# Altium footprint library mylib.PcbLib: 16 footprints
Each footprint in its own frame and in the unit in brackets; x right, y up, seen from the top. Pads: shape width x height; smd on the part's side, far side on the other; paste and mask are expansions set on the pad; w line width, h text height; cw(c..) or ccw(c..) is an arc to the next point about the centre after c.
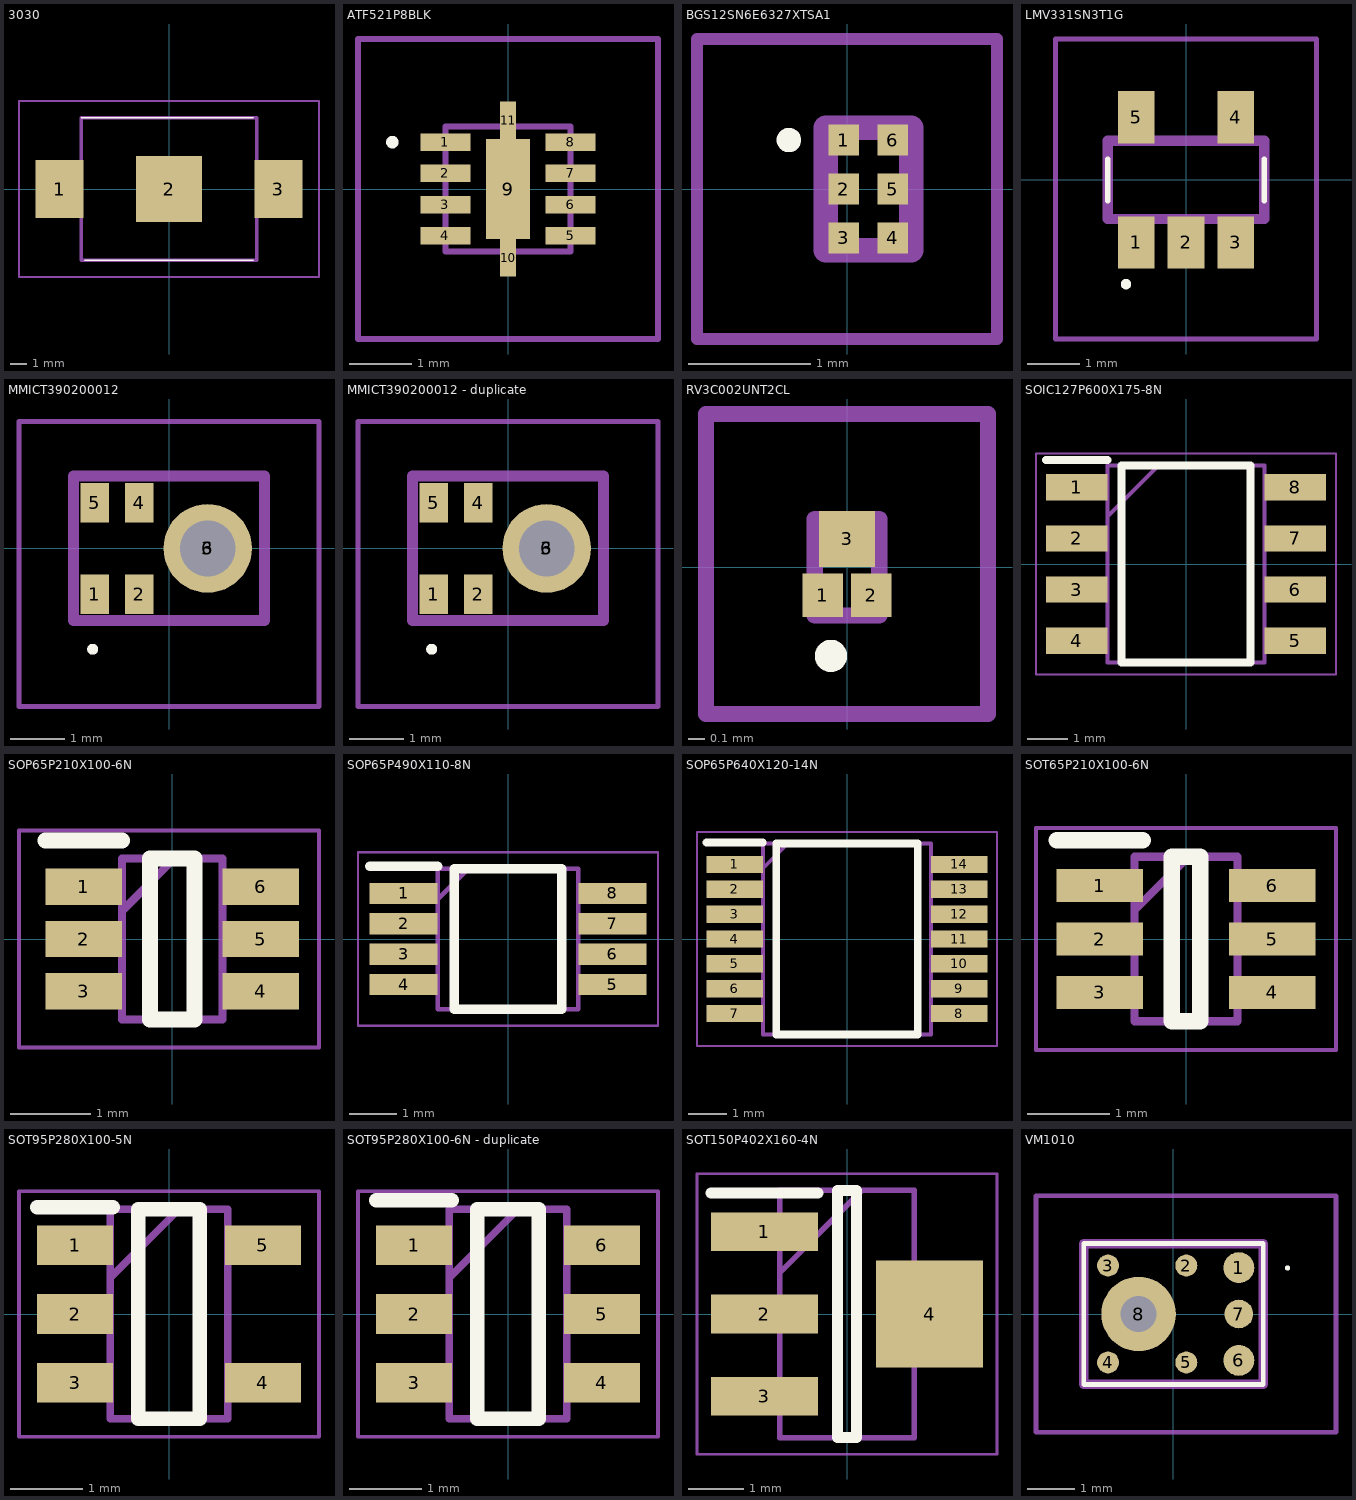
[diagram p0: the footprints below, top view; thin cyan lines are the x and y axes]

## 3030 [mm]
pads (3):
  rect 2.9x3.5 smd: 1(-6.6,0) 3(6.6,0)
  rect 3.96x3.96 smd: 2(0,0)
Top Overlay:
  lines w0.1: -5.3,4.305 5.08,4.305 ; -5.08,-4.305 5.08,-4.305
Mechanical 13:
  lines w0.2: -5.3,-4.305 -5.3,4.305 5.3,4.305 5.3,-4.305 -5.3,-4.305
Mechanical 15:
  lines w0.1: -9.05,-5.305 -9.05,5.305 9.05,5.305 9.05,-5.305 -9.05,-5.305
3D body "3030.stp": height 3.3, standoff 0, extent -7.76,-4.305 7.76,4.305

## ATF521P8BLK [mm]
pads (11):
  rect 0.8x0.28 smd: 1(-1,0.75) 2(-1,0.25) 3(-1,-0.25) 4(-1,-0.75) 5(1,-0.75) 6(1,-0.25) 7(1,0.25) 8(1,0.75)
  rect 0.7x1.6 smd: 9(0,0)
  rect 0.25x0.6 smd: 10(0,-1.1) 11(0,1.1)
Top Overlay:
  lines w0.1: -1.9,0.75 cw(c-1.85,0.75) -1.8,0.75 cw(c-1.85,0.75) -1.9,0.75
Mechanical 13:
  lines w0.1: -1,-1 1,-1 1,1 -1,1 -1,-1
Mechanical 15:
  lines w0.1: -2.4,-2.4 2.4,-2.4 2.4,2.4 -2.4,2.4 -2.4,-2.4
3D body "ATF-521P8-BLK.stp": height 0.9, standoff 0, extent -1.372,-1.375 1.372,1.375

## BGS12SN6E6327XTSA1 [mm]
pads (6):
  rect 0.25x0.25 smd: 1(-0.025,0.4) 2(-0.025,0) 3(-0.025,-0.4) 4(0.375,-0.4) 5(0.375,0) 6(0.375,0.4)
Top Overlay:
  lines w0.1: -0.525,0.4 ccw(c-0.475,0.4) -0.425,0.4 ccw(c-0.475,0.4) -0.525,0.4
Mechanical 13:
  lines w0.2: -0.175,-0.5 0.525,-0.5 0.525,0.5 -0.175,0.5 -0.175,-0.5
Mechanical 15:
  lines w0.1: -1.225,-1.225 1.225,-1.225 1.225,1.225 -1.225,1.225 -1.225,-1.225

## LMV331SN3T1G [mm]
pads (5):
  rect 0.7x1 smd: 1(-0.95,-1.2) 2(0,-1.2) 3(0.95,-1.2) 4(0.95,1.2) 5(-0.95,1.2)
Top Overlay:
  lines w0.1: -1.5,-0.4 -1.5,0.4 ; 1.5,-0.4 1.5,0.4 ; -1.2,-2 cw(c-1.15,-2) -1.1,-2 cw(c-1.15,-2) -1.2,-2
Mechanical 13:
  lines w0.2: -1.5,-0.75 -1.5,0.75 1.5,0.75 1.5,-0.75 -1.5,-0.75
Mechanical 15:
  lines w0.1: -2.5,-3.05 -2.5,2.7 2.5,2.7 2.5,-3.05 -2.5,-3.05
3D body "LMV331SN3T1G.stp": height 1.2, standoff 0, extent -1.5,-0.75 1.5,0.75

## MMICT390200012 [mm]
pads (6):
  rect 0.522x0.725 smd: 1(-1.364,-0.838) 2(-0.542,-0.838) 4(-0.542,0.837) 5(-1.364,0.837)
  round 1.625 smd: 3(0.71,0)
  round 0.512 hole 1.025 unplated: 6(0.71,0)
Top Overlay:
  lines w0.1: -1.4,-1.9 cw(c-1.4,-1.85) -1.4,-1.8 cw(c-1.4,-1.85) -1.4,-1.9
Mechanical 13:
  lines w0.2: -1.75,-1.325 1.75,-1.325 1.75,1.325 -1.75,1.325 -1.75,-1.325
Mechanical 15:
  lines w0.1: -2.75,-2.9 2.75,-2.9 2.75,2.325 -2.75,2.325 -2.75,-2.9
3D body "MMICT3902-00-012.stp": height 1.23, standoff -1.7, extent -1.75,-1.325 1.75,1.325

## MMICT390200012 - duplicate [mm]
pads (6):
  rect 0.522x0.725 smd: 1(-1.364,-0.838) 2(-0.542,-0.838) 4(-0.542,0.837) 5(-1.364,0.837)
  round 1.625 smd: 3(0.71,0)
  round 0.512 hole 1.025 unplated: 6(0.71,0)
Top Overlay:
  lines w0.1: -1.4,-1.9 ccw(c-1.4,-1.85) -1.4,-1.8 ccw(c-1.4,-1.85) -1.4,-1.9
Mechanical 13:
  lines w0.2: -1.75,-1.325 -1.75,1.325 1.75,1.325 1.75,-1.325 -1.75,-1.325
Mechanical 15:
  lines w0.1: -2.75,-2.9 -2.75,2.325 2.75,2.325 2.75,-2.9 -2.75,-2.9
3D body "MMICT3902-00-012.stp": height 1.23, standoff -1.7, extent -1.75,-1.325 1.75,1.325

## RV3C002UNT2CL [mm]
pads (3):
  rect 0.25x0.27 smd: 1(-0.15,-0.175) 2(0.15,-0.175)
  rect 0.35x0.35 smd: 3(0,0.175)
Top Overlay:
  lines w0.1: -0.1,-0.6 cw(c-0.1,-0.55) -0.1,-0.5 cw(c-0.1,-0.55) -0.1,-0.6
Mechanical 13:
  lines w0.1: -0.2,-0.3 0.2,-0.3 0.2,0.3 -0.2,0.3 -0.2,-0.3
Mechanical 15:
  lines w0.1: -0.875,-0.91 0.875,-0.91 0.875,0.95 -0.875,0.95 -0.875,-0.91
3D body "RV3C002UNT2CL.stp": height 0.49, standoff 0, extent -0.25,-0.3 0.25,0.315

## SOIC127P600X175-8N [mm]
pads (8):
  rect 1.525x0.65 smd: 1(-2.712,1.905) 2(-2.712,0.635) 3(-2.712,-0.635) 4(-2.712,-1.905) 5(2.712,-1.905) 6(2.712,-0.635) 7(2.712,0.635) 8(2.712,1.905)
Top Overlay:
  lines w0.2: -3.475,2.58 -1.95,2.58 ; -1.6,-2.45 1.6,-2.45 1.6,2.45 -1.6,2.45 -1.6,-2.45
Mechanical 13:
  lines w0.1: -1.95,1.18 -0.68,2.45 ; -1.95,-2.45 1.95,-2.45 1.95,2.45 -1.95,2.45 -1.95,-2.45
Mechanical 15:
  lines w0.05: -3.725,-2.75 3.725,-2.75 3.725,2.75 -3.725,2.75 -3.725,-2.75
3D body "NE555DR.stp": height 1.75, standoff 0, extent -3,-2.45 3,2.45

## SOP65P210X100-6N [mm]
pads (6):
  rect 0.95x0.45 smd: 1(-1.1,0.65) 2(-1.1,0) 3(-1.1,-0.65) 4(1.1,-0.65) 5(1.1,0) 6(1.1,0.65)
Top Overlay:
  lines w0.2: -1.575,1.225 -0.625,1.225 ; -0.275,-1 0.275,-1 0.275,1 -0.275,1 -0.275,-1
Mechanical 13:
  lines w0.1: -0.625,0.35 0.025,1 ; -0.625,-1 0.625,-1 0.625,1 -0.625,1 -0.625,-1
Mechanical 15:
  lines w0.05: -1.905,-1.35 1.825,-1.35 1.825,1.35 -1.905,1.35 -1.905,-1.35
3D body "LT5534ESC6#TRPBF.stp": height 1, standoff 0, extent -1.05,-1 1.05,1

## SOP65P490X110-8N [mm]
pads (8):
  rect 1.45x0.45 smd: 1(-2.225,0.975) 2(-2.225,0.325) 3(-2.225,-0.325) 4(-2.225,-0.975) 5(2.225,-0.975) 6(2.225,-0.325) 7(2.225,0.325) 8(2.225,0.975)
Top Overlay:
  lines w0.2: -2.95,1.55 -1.5,1.55 ; -1.15,-1.5 1.15,-1.5 1.15,1.5 -1.15,1.5 -1.15,-1.5
Mechanical 13:
  lines w0.1: -1.5,0.85 -0.85,1.5 ; -1.5,-1.5 1.5,-1.5 1.5,1.5 -1.5,1.5 -1.5,-1.5
Mechanical 15:
  lines w0.05: -3.2,-1.85 3.2,-1.85 3.2,1.85 -3.2,1.85 -3.2,-1.85
3D body "ADG901BRMZ.stp": height 1.1, standoff 0, extent -2.45,-1.5 2.45,1.5

## SOP65P640X120-14N [mm]
pads (14):
  rect 1.475x0.45 smd: 1(-2.938,1.95) 2(-2.938,1.3) 3(-2.938,0.65) 4(-2.938,0) 5(-2.938,-0.65) 6(-2.938,-1.3) 7(-2.938,-1.95) 8(2.938,-1.95) 9(2.938,-1.3) 10(2.938,-0.65) 11(2.938,0) 12(2.938,0.65) 13(2.938,1.3) 14(2.938,1.95)
Top Overlay:
  lines w0.2: -3.675,2.525 -2.2,2.525 ; -1.85,-2.5 -1.85,2.5 1.85,2.5 1.85,-2.5 -1.85,-2.5
Mechanical 13:
  lines w0.1: -2.2,1.85 -1.55,2.5 ; -2.2,-2.5 -2.2,2.5 2.2,2.5 2.2,-2.5 -2.2,-2.5
Mechanical 15:
  lines w0.05: -3.925,-2.8 -3.925,2.8 3.925,2.8 3.925,-2.8 -3.925,-2.8
3D body "SN74HCS86PWR.stp": height 1.13, standoff 0, extent -3.2,-2.5 3.2,2.5

## SOT65P210X100-6N [mm]
pads (6):
  rect 1.05x0.4 smd: 1(-1.05,0.65) 2(-1.05,0) 3(-1.05,-0.65) 4(1.05,-0.65) 5(1.05,0) 6(1.05,0.65)
Top Overlay:
  lines w0.2: -1.575,1.2 -0.525,1.2 ; -0.175,-1 -0.175,1 0.175,1 0.175,-1 -0.175,-1
Mechanical 13:
  lines w0.1: -0.625,0.35 0.025,1 ; -0.625,-1 -0.625,1 0.625,1 0.625,-1 -0.625,-1
Mechanical 15:
  lines w0.05: -1.825,-1.35 -1.825,1.35 1.825,1.35 1.825,-1.35 -1.825,-1.35
3D body "LTC5509ESC6#TRMPBF.stp": height 1, standoff 0, extent -1.05,-1 1.05,1

## SOT95P280X100-5N [mm]
pads (5):
  rect 1.05x0.55 smd: 1(-1.3,0.95) 2(-1.3,0) 3(-1.3,-0.95) 4(1.3,-0.95) 5(1.3,0.95)
Top Overlay:
  lines w0.2: -1.825,1.475 -0.775,1.475 ; -0.425,-1.45 0.425,-1.45 0.425,1.45 -0.425,1.45 -0.425,-1.45
Mechanical 13:
  lines w0.1: -0.812,0.5 0.138,1.45 ; -0.812,-1.45 0.812,-1.45 0.812,1.45 -0.812,1.45 -0.812,-1.45
Mechanical 15:
  lines w0.05: -2.075,-1.7 2.075,-1.7 2.075,1.7 -2.075,1.7 -2.075,-1.7
3D body "LTC6900IS5#TRMPBF.stp": height 1, standoff 0, extent -1.4,-1.45 1.4,1.45

## SOT95P280X100-6N - duplicate [mm]
pads (6):
  rect 1.05x0.55 smd: 1(-1.3,0.95) 2(-1.3,0) 3(-1.3,-0.95) 4(1.3,-0.95) 5(1.3,0) 6(1.3,0.95)
Top Overlay:
  lines w0.2: -1.825,1.575 -0.775,1.575 ; -0.425,-1.45 0.425,-1.45 0.425,1.45 -0.425,1.45 -0.425,-1.45
Mechanical 13:
  lines w0.1: -0.812,0.5 0.138,1.45 ; -0.812,-1.45 0.812,-1.45 0.812,1.45 -0.812,1.45 -0.812,-1.45
Mechanical 15:
  lines w0.05: -2.075,-1.7 2.075,-1.7 2.075,1.7 -2.075,1.7 -2.075,-1.7
3D body "LTC6990CS6#TRMPBF.stp": height 1, standoff 0, extent -1.4,-1.45 1.4,1.45

## SOT150P402X160-4N [mm]
pads (4):
  rect 1.95x0.7 smd: 1(-1.5,1.495) 2(-1.5,0) 3(-1.5,-1.495)
  rect 1.95x1.95 smd: 4(1.5,0)
Top Overlay:
  lines w0.2: -2.475,2.195 -0.525,2.195 ; -0.175,-2.248 -0.175,2.248 0.175,2.248 0.175,-2.248 -0.175,-2.248
Mechanical 13:
  lines w0.1: -1.22,0.752 0.275,2.248 ; -1.22,-2.248 -1.22,2.248 1.22,2.248 1.22,-2.248 -1.22,-2.248
Mechanical 15:
  lines w0.05: -2.725,-2.55 -2.725,2.55 2.725,2.55 2.725,-2.55 -2.725,-2.55

## VM1010 [mm]
pads (8):
  round 0.65 smd: 1(1.37,0.97) 6(1.37,-0.97)
  round 0.46 smd: 2(0.27,1.015) 3(-1.37,1.015) 4(-1.37,-1.015) 5(0.27,-1.015)
  round 0.6 smd: 7(1.37,0)
  round 1.56 hole 0.75: 8(-0.73,0)
Top Overlay:
  lines w0.1: -1.88,-1.475 1.88,-1.475 1.88,1.475 -1.88,1.475 -1.88,-1.475 ; 2.39,0.96 ccw(c2.39,0.965) 2.39,0.97 ccw(c2.39,0.965) 2.39,0.96
Mechanical 13:
  lines w0.2: -1.88,-1.475 1.88,-1.475 1.88,1.475 -1.88,1.475 -1.88,-1.475
Mechanical 15:
  lines w0.1: -2.88,-2.475 3.405,-2.475 3.405,2.475 -2.88,2.475 -2.88,-2.475
3D body "VM1010.stp": height 1.5, standoff 0, extent -1.88,-1.475 1.88,1.475